# Altium integrated library LTC6652AHMS8-2.5PBF.IntLib: 1 symbol
Pins are listed as number, name and electrical type; pins without a type are passive.

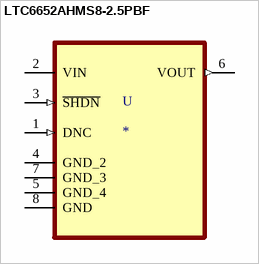
[diagram p0: symbol LTC6652AHMS8-2.5PBF]

## LTC6652AHMS8-2.5PBF
designator U
Ic Vref Series Prec 2.5v 8-Msop - Ltc6652ahms8-2.5#Pbf; MF: Linear Technology; Package: MSOP-8 Linear Technology; Price: None; Availability: Unavailable; MP: LTC6652AHMS8-2.5#PBF; SnapEDA_Link: https://www.snapeda.com/parts/LTC6652AHMS8-2.5%23PBF/Analog%20Devices/view-part/135303/?ref=snap; Value: *
footprint SOP65P490X110-8N
pins: 1 DNC (in), 2 VIN (power), 3 ~{SHDN} (in), 4 GND_2, 5 GND_4, 6 VOUT (out), 7 GND_3, 8 GND